# Altium footprint library PCBLib.PcbLib: 10 footprints
Each footprint in its own frame and in the unit in brackets; x right, y up, seen from the top. Pads: shape width x height; smd on the part's side, far side on the other; paste and mask are expansions set on the pad; w line width, h text height; cw(c..) or ccw(c..) is an arc to the next point about the centre after c.
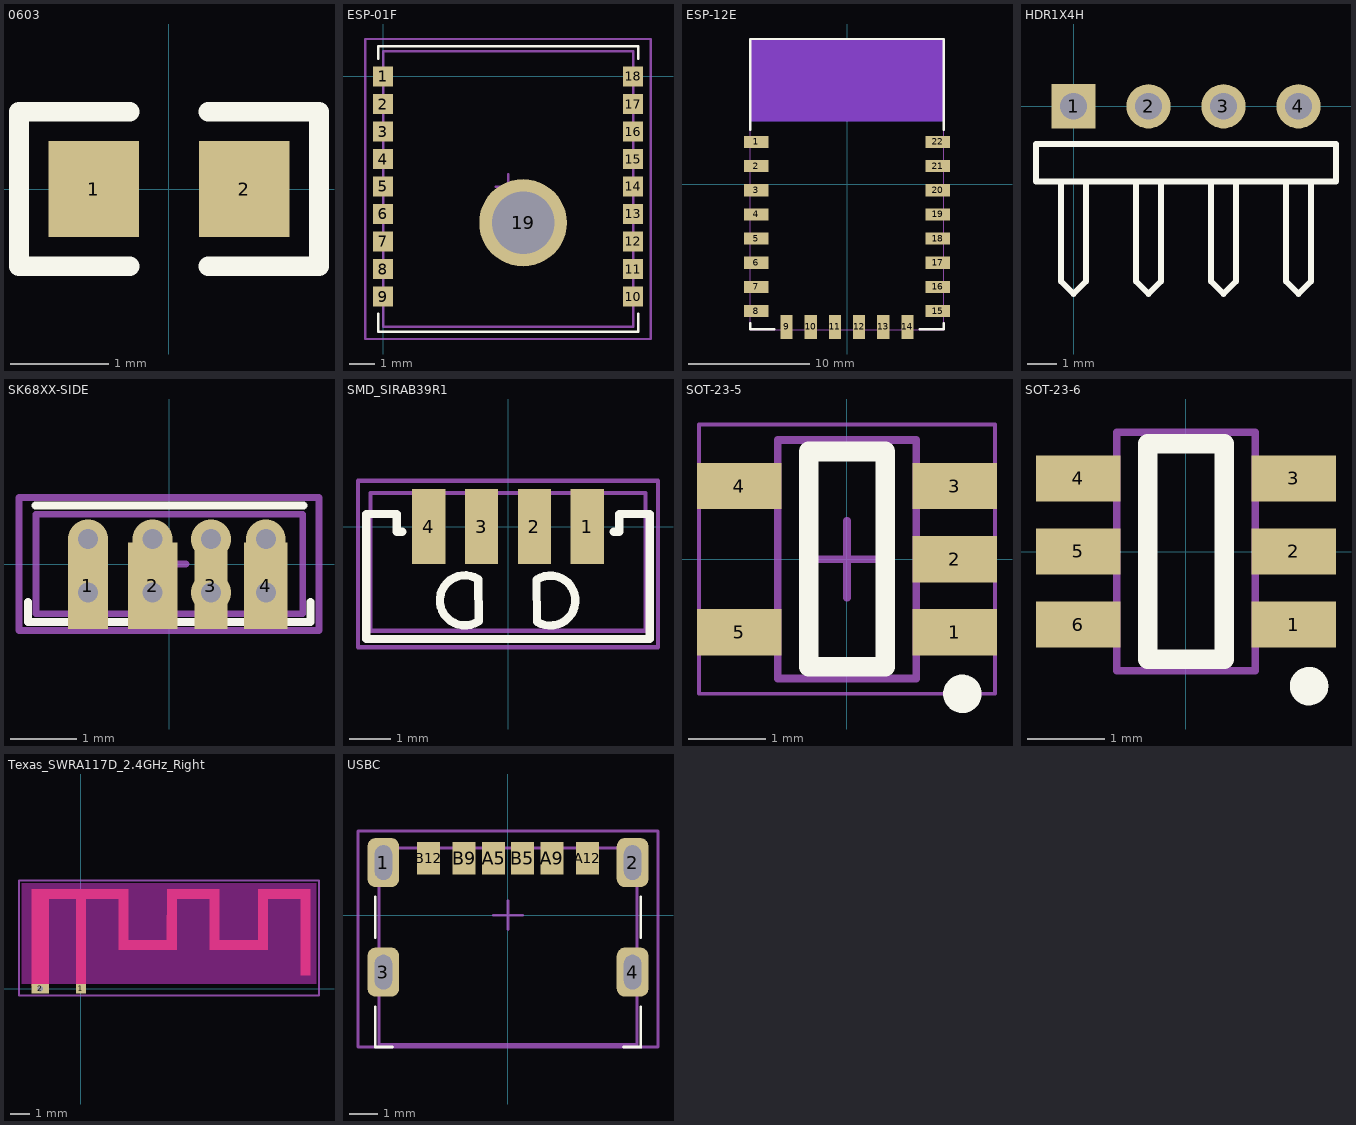
[diagram p0: the footprints below, top view; thin cyan lines are the x and y axes]

## 0603 [mm]
pads (2):
  rect 0.93x0.98 smd: 1(-0.77,0) 2(0.77,0)
Top Overlay:
  lines w0.2: -0.4,-0.79 -1.535,-0.79 -1.535,0.79 -0.4,0.79 ; 0.4,-0.79 1.535,-0.79 1.535,0.79 0.4,0.79
3D body "User Library-RES_1609-0603.STEP": height 0.56, standoff 0, extent -0.85,-0.4 0.85,0.4

## ESP-01F [mm]
pads (19):
  rect 0.8x0.8 smd: 1(0,0) 2(0,-1.1) 3(0,-2.2) 4(0,-3.3) 5(0,-4.4) 6(0,-5.5) 7(0,-6.6) 8(0,-7.7) 9(0,-8.8) 10(10,-8.8) 11(10,-7.7) 12(10,-6.6) 13(10,-5.5) 14(10,-4.4) 15(10,-3.3) 16(10,-2.2) 17(10,-1.1) 18(10,0)
  round 3.5 hole 2.5: 19(5.6,-5.85)
Top Overlay:
  lines w0.1: -0.2,-9.5 -0.2,-10.2 10.2,-10.2 10.2,-9.5 ; -0.2,0.7 -0.2,1.2 10.2,1.2 10.2,0.7
Top 3D Body:
  lines w0.1: 0,-10 0,1 10,1 10,-10 0,-10
Top Courtyard:
  lines w0.1: 4.5,-4.4 5.5,-4.4 ; 5,-4.9 5,-3.9 ; -0.7,-10.5 10.7,-10.5 10.7,1.5 -0.7,1.5 -0.7,-10.5

## ESP-12E [mm]
height 5
pads (22):
  rect 2x1 smd: 1(-7.5,3.5) 2(-7.5,1.5) 3(-7.5,-0.5) 4(-7.5,-2.5) 5(-7.5,-4.5) 6(-7.5,-6.5) 7(-7.5,-8.5) 8(-7.5,-10.5) 15(7.5,-10.5) 16(7.5,-8.5) 17(7.5,-6.5) 18(7.5,-4.5) 19(7.5,-2.5) 20(7.5,-0.5) 21(7.5,1.5) 22(7.5,3.5)
  rect 1x2 smd: 9(-5,-11.8) 10(-3,-11.8) 11(-1,-11.8) 12(1,-11.8) 13(3,-11.8) 14(5,-11.8)
Top Layer keep-out:
  rectangle: -8,5.2 8,12
Bottom Layer keep-out:
  rectangle: -8,5.2 8,12
Top Overlay:
  lines w0.2: -8,-11.5 -8,-12 -6,-12 ; -8,4.5 -8,12 0,12 8,12 8,4.5 ; 6,-12 8,-12 8,-11.5
Top 3D Body:
  lines w0.1: -8.009,-12.03 8.006,-12.03 8.006,12 -8.009,12 -8.009,-12.03
3D body "ESP8266-12.step": height 3.82, standoff -0.05, extent -8.009,-12.03 8.006,12

## HDR1X4H [mm] "Connector; Header; 4 Position; Right Angle"
pads (4):
  rect 1.5x1.5 hole 0.9: 1(0,0)
  round 1.5 hole 0.9: 2(2.54,0) 3(5.08,0) 4(7.62,0)
Top Overlay:
  lines w0.2: -0.423,-2.54 -0.423,-5.927 0,-6.35 0.423,-5.927 0.423,-2.54 ; 2.117,-2.54 2.117,-5.927 2.54,-6.35 2.963,-5.927 2.963,-2.54 ; 4.657,-2.54 4.657,-5.927 5.08,-6.35 5.503,-5.927 5.503,-2.54 ; 7.197,-2.54 7.197,-5.927 7.62,-6.35 8.043,-5.927 8.043,-2.54 ; -1.27,-2.54 -1.27,-1.27 8.89,-1.27 8.89,-2.54 -1.27,-2.54
3D body "PinHeader_1x04_P2.54mm_Horizontal.step": height 2.54, standoff -3, extent -1.27,-10.04 8.89,0.32

## SK68XX-SIDE [mm]
pads (4):
  rect 0.6x1.3 smd: 1(-1.225,-0.328)
  rect 0.75x1.3 smd: 2(-0.25,-0.328)
  rect 0.5x1.3 smd: 3(0.625,-0.328)
  rect 0.65x1.3 smd: 4(1.45,-0.328)
via -1.225,0.372 diameter 0.6 hole 0.3
via -0.25,0.372 diameter 0.6 hole 0.3
via 0.625,0.372 diameter 0.6 hole 0.3
via 1.45,0.372 diameter 0.6 hole 0.3
via 1.45,-0.428 diameter 0.6 hole 0.3
via 0.625,-0.428 diameter 0.6 hole 0.3
via -0.25,-0.428 diameter 0.6 hole 0.3
via -1.225,-0.428 diameter 0.6 hole 0.3
Top Overlay:
  lines w0.12: -2.125,-0.572 -2.125,-0.872 2.125,-0.872 2.125,-0.572 ; -2.015,0.878 2.015,0.878
Top 3D Body:
  lines w0.1: -2.005,-0.75 2.005,-0.75 2.005,0.75 -2.005,0.75 -2.005,-0.75
Top Courtyard:
  lines w0.1: -0.25,0 0.25,0 ; 0,-0.25 0,0.25 ; -2.26,-1 -2.26,1 2.25,1 2.25,-1 -2.26,-1

## SMD_SIRAB39R1 [mm]
pads (4):
  rect 0.8x1.8 smd: 1(1.905,0) 2(0.635,0) 3(-0.635,0) 4(-1.905,0)
Top Overlay:
  lines w0.2: -2.536,-0.127 -2.667,-0.127 -2.667,0.3 -3.4,0.3 -3.4,-2.7 3.4,-2.7 3.4,0.3 2.667,0.3 2.667,-0.127 2.536,-0.127 ; -0.713,-1.266 ccw(c-1.035,-1.772) -0.704,-2.273 -0.713,-1.266 ; 0.685,-1.278 cw(c1.016,-1.778) 0.694,-2.284 0.685,-1.278
Top 3D Body:
  lines w0.1: -3.3,-2.5 3.3,-2.5 3.3,0.75 3.3,0.8 -3.3,0.8 -3.3,-2.5
Top Courtyard:
  lines w0.1: -3.6,-2.9 3.6,-2.9 3.6,1.1 -3.6,1.1 -3.6,-2.9

## SOT-23-5 [mm]
pads (5):
  rect 1.1x0.6 smd: 1(1.4,-0.95) 2(1.4,0) 3(1.4,0.95) 4(-1.4,0.95) 5(-1.4,-0.95)
Top Overlay:
  circle w0.25: c1.5,-1.75 r0.125
  lines w0.254: -0.5,-1.4 -0.5,1.4 0.5,1.4 0.5,-1.4 -0.5,-1.4
Top 3D Body:
  lines w0.1: -0.9,-1.55 0.9,-1.55 0.9,1.55 -0.9,1.55 -0.9,-1.55
Top Courtyard:
  lines w0.05: -1.925,-1.75 -1.925,1.75 1.925,1.75 1.925,-1.75 -1.925,-1.75
  lines w0.1: -0.5,0 0.5,0 ; 0,-0.5 0,0.5
3D body "SOT95P245X110-5N.step": height 1.1, standoff 0, extent -1.3,-1.5 1.3,1.5

## SOT-23-6 [mm]
pads (6):
  rect 1.1x0.6 smd: 1(1.4,-0.95) 2(1.4,0) 3(1.4,0.95) 4(-1.4,0.95) 5(-1.4,0) 6(-1.4,-0.95)
Top Overlay:
  circle w0.25: c1.6,-1.75 r0.125
  lines w0.254: -0.5,-1.4 0.5,-1.4 0.5,1.4 -0.5,1.4 -0.5,-1.4
Top 3D Body:
  lines w0.1: -0.9,-1.55 0.9,-1.55 ; -0.9,-1.55 -0.9,1.55 ; -0.9,-1.55 0.9,-1.55 ; -0.9,-1.55 -0.9,1.55 ; -0.9,1.55 0.9,1.55 ; -0.9,1.55 0.9,1.55 ; 0.9,-1.55 0.9,1.55 ; 0.9,-1.55 0.9,1.55
3D body "SOT95P245X110-5N.step": height 1.1, standoff 0, extent -1.3,-1.5 1.3,1.5

## Texas_SWRA117D_2.4GHz_Right [mm]
pads (2):
  rect 0.5x0.5 smd: 1(0,0)
  rect 0.9x0.5 hole 0.3: 2(-2.1,0)
Top Layer:
  region: -2.55,0.16 -1.65,0.16 -1.65,4.65 -0.25,4.65 -0.25,0 0.25,0 0.25,4.65 1.95,4.65 1.95,2.01 4.95,2.01 4.95,4.65 6.65,4.65 6.65,2.01 9.65,2.01 9.65,4.65 11.35,4.65 11.35,0.71 11.85,0.71 11.85,5.15 9.15,5.15 9.15,2.51 7.15,2.51 7.15,5.15 4.45,5.15 4.44,2.51 2.45,2.51 2.45,5.15 -2.55,5.15
Top Solder:
  region: -3,5.42
Keep-Out Layer:
  region: -3.05,5.45 12.15,5.45 12.16,0.25 -3.05,0.25
Top Courtyard:
  lines w0.1: -3.2,-0.35 12.3,-0.35 12.3,5.6 -3.2,5.6 -3.2,-0.35

## USBC [mm]
pads (10):
  rrect50% 1.1x1.7 hole 0.6 slot 1.2 at 90 deg: 1(-4.32,1.825) 2(4.32,1.825) 3(-4.32,-1.975) 4(4.32,-1.975)
  rect 0.8x1.12 smd: A5(-0.5,1.975) A9(1.52,1.975) A12(2.75,1.975) B5(0.5,1.975) B9(-1.52,1.975) B12(-2.75,1.975)
Top Overlay:
  lines w0.1: -4.6,-3.175 -4.6,-4.575 ; -4.6,-0.775 -4.6,0.625 ; -4,-4.575 -4.6,-4.575 ; 4,-4.575 4.6,-4.575 ; 4.6,-3.175 4.6,-4.575 ; 4.6,-0.775 4.6,0.625 ; -4.6,-4.575 -4.6,-4.575 ; 4.6,-4.575 4.6,-4.575
Top 3D Body:
  lines w0.1: -4.47,-4.475 -4.47,2.325 4.47,2.325 4.47,-4.475 -4.47,-4.475
Top Courtyard:
  lines w0.1: -0.5,0 0.5,0 ; 0,-0.5 0,0.5 ; -5.2,-4.575 5.2,-4.575 5.2,2.925 -5.2,2.925 -5.2,-4.575